# Altium footprint library WE-VE.PcbLib: 3 footprints
Each footprint in its own frame and in the unit in brackets; x right, y up, seen from the top. Pads: shape width x height; smd on the part's side, far side on the other; paste and mask are expansions set on the pad; w line width, h text height; cw(c..) or ccw(c..) is an arc to the next point about the centre after c.
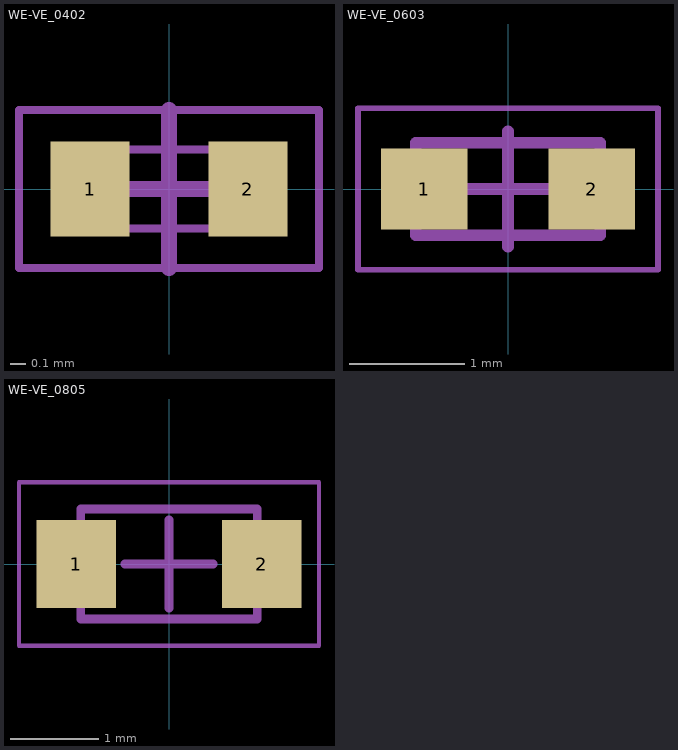
[diagram p0: the footprints below, top view; thin cyan lines are the x and y axes]

## WE-VE_0402 [mm] "ESD Suppressor, size 0402, body 1x0.5mm"
height 0.6
pads (2):
  rect 0.5x0.6 smd: 1(-0.5,0) 2(0.5,0)
Top Assembly:
  lines w0.05: -0.5,-0.25 0.5,-0.25 0.5,0.25 -0.5,0.25 -0.5,-0.25
Top Designator:
  text ".Designator" at -3.647,-0.357 h1
Top Courtyard:
  lines w0.05: -0.95,-0.5 0.95,-0.5 0.95,0.5 -0.95,0.5 -0.95,-0.5
Top Component Center:
  lines w0.1: -0.5,0 0.5,0 ; 0,-0.5 0,0.5
3D body "DIOC1005X06N.step": height 0.6, standoff 0, extent -0.5,-0.25 0.5,0.25

## WE-VE_0603 [mm] "ESD Suppressor, size 0603, body 1.6x0.8mm"
height 0.9
pads (2):
  rect 0.75x0.7 smd: 1(-0.725,0) 2(0.725,0)
Top Assembly:
  lines w0.1: -0.8,-0.4 -0.8,0.4 0.8,0.4 0.8,-0.4 -0.8,-0.4
Top Designator:
  text ".Designator" at -3.647,-0.357 h1
Top Courtyard:
  lines w0.05: -1.3,-0.7 -1.3,0.7 1.3,0.7 1.3,-0.7 -1.3,-0.7
Top Component Center:
  lines w0.1: -0.5,0 0.5,0 ; 0,-0.5 0,0.5
3D body "DIOC1608X09N.step": height 0.9, standoff 0, extent -0.8,-0.4 0.8,0.4

## WE-VE_0805 [mm] "ESD Suppressor, size 0805, body 2x1.25mm"
height 1.2
pads (2):
  rect 0.9x1 smd: 1(-1.05,0) 2(1.05,0)
Top Assembly:
  lines w0.1: -1,-0.625 -1,0.625 1,0.625 1,-0.625 -1,-0.625
Top Designator:
  text ".Designator" at -3.647,-0.357 h1
Top Courtyard:
  lines w0.05: -1.7,-0.925 -1.7,0.925 1.7,0.925 1.7,-0.925 -1.7,-0.925
Top Component Center:
  lines w0.1: -0.5,0 0.5,0 ; 0,-0.5 0,0.5
3D body "DIOC2012X12N.step": height 1.2, standoff 0, extent -1,-0.625 1,0.625